# Altium footprint library MSTBA_3-pin_header.PcbLib: 1 footprints
Each footprint in its own frame and in the unit in brackets; x right, y up, seen from the top. Pads: shape width x height; smd on the part's side, far side on the other; paste and mask are expansions set on the pad; w line width, h text height; cw(c..) or ccw(c..) is an arc to the next point about the centre after c.
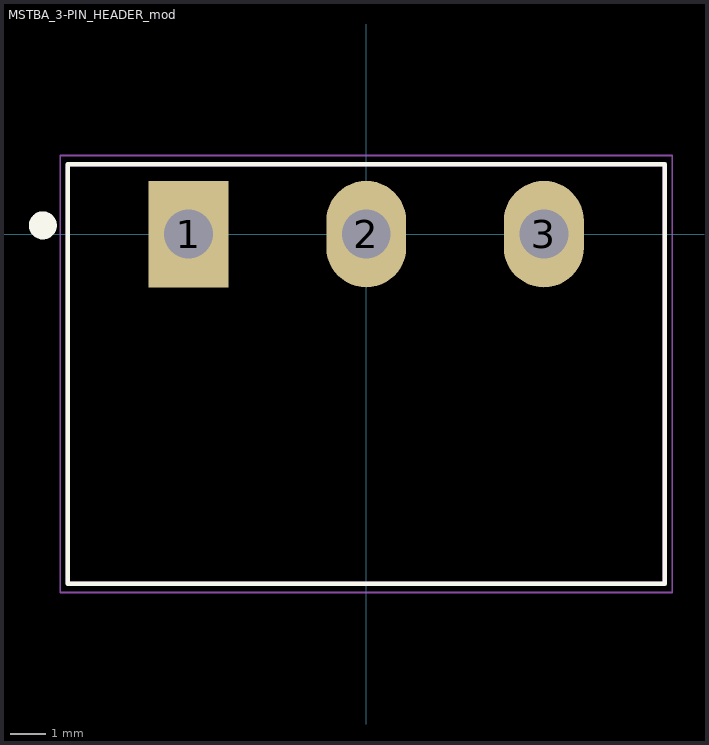
[diagram p0: the footprint, top view; thin cyan lines are the x and y axes]

## MSTBA_3-PIN_HEADER_mod [mil]
pads (3):
  rect 90x120 hole 55.12: 1(-200,0)
  oval 90x120 hole 55.12: 2(0,0) 3(200,0)
Top Overlay:
  circle w15.75: c-364.17,9.84 r7.87
  lines w5: -336.22,-393.7 336.22,-393.7 336.22,78.74 -336.22,78.74 -336.22,-393.7
Mechanical 13:
  lines w5: -336.22,-393.7 -336.22,78.74 336.22,78.74 336.22,-393.7 -336.22,-393.7
Mechanical 15:
  lines w1.97: -344.49,-403.54 344.49,-403.54 344.49,88.58 -344.49,88.58 -344.49,-403.54